# Altium schematic symbol library ASBB.SchLib: 3 symbols
Pins are listed as number, name and electrical type; pins without a type are passive.

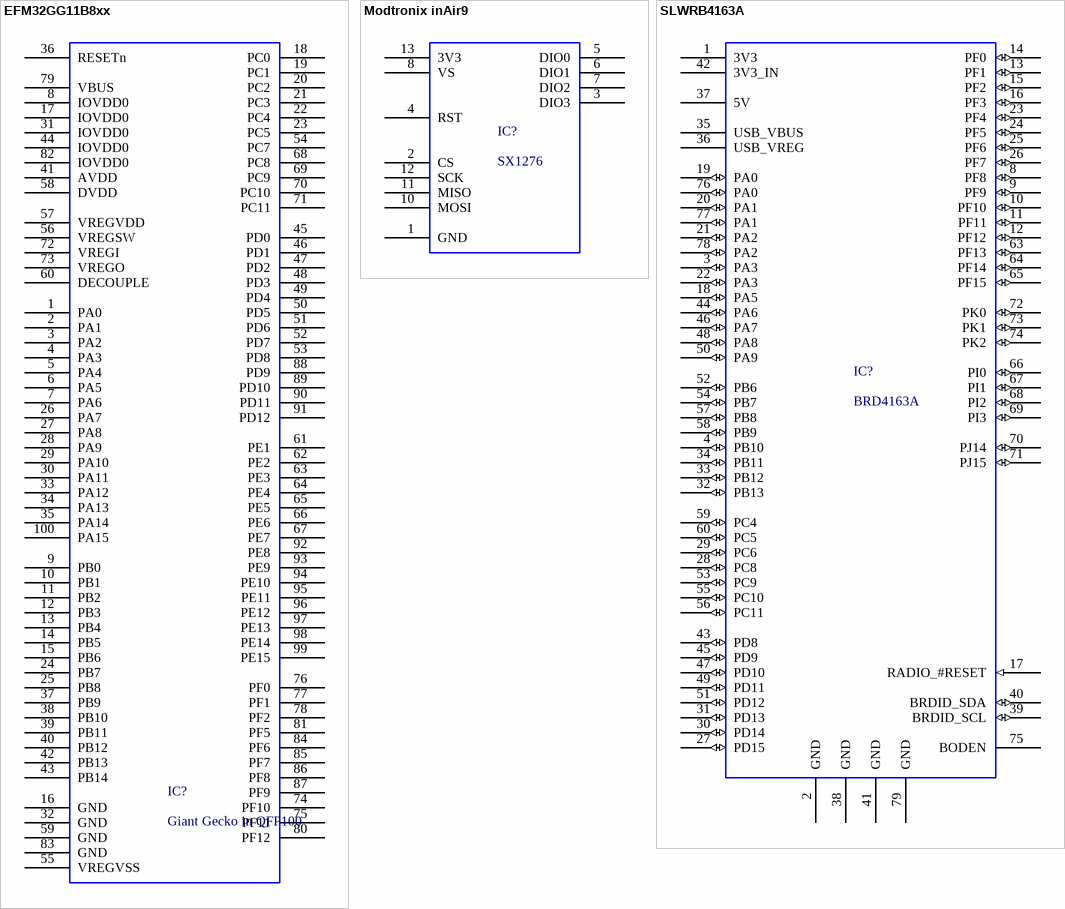
[diagram p0: symbols EFM32GG11B8xx to SLWRB4163A]

## EFM32GG11B8xx
designator IC?, comment Giant Gecko in QFP100
footprint TQFP100
pins: 1 PA0 (power), 2 PA1 (power), 3 PA2 (power), 4 PA3 (power), 5 PA4 (power), 6 PA5 (power), 7 PA6 (power), 8 IOVDD0 (power), 9 PB0 (power), 10 PB1 (power), 11 PB2 (power), 12 PB3 (power), 13 PB4 (power), 14 PB5 (power), 15 PB6 (power), 16 GND (power), 17 IOVDD0 (power), 18 PC0 (power), 19 PC1 (power), 20 PC2 (power), 21 PC3 (power), 22 PC4 (power), 23 PC5 (power), 24 PB7 (power), 25 PB8 (power), 26 PA7 (power), 27 PA8 (power), 28 PA9 (power), 29 PA10 (power), 30 PA11 (power), 31 IOVDD0 (power), 32 GND (power), 33 PA12 (power), 34 PA13 (power), 35 PA14 (power), 36 RESETn (power), 37 PB9 (power), 38 PB10 (power), 39 PB11 (power), 40 PB12 (power), 41 AVDD (power), 42 PB13 (power), 43 PB14 (power), 44 IOVDD0 (power), 45 PD0 (power), 46 PD1 (power), 47 PD2 (power), 48 PD3 (power), 49 PD4 (power), 50 PD5 (power), 51 PD6 (power), 52 PD7 (power), 53 PD8 (power), 54 PC7 (power), 55 VREGVSS (power), 56 VREGSW (power), 57 VREGVDD (power), 58 DVDD (power), 59 GND (power), 60 DECOUPLE (power), 61 PE1 (power), 62 PE2 (power), 63 PE3 (power), 64 PE4 (power), 65 PE5 (power), 66 PE6 (power), 67 PE7 (power), 68 PC8 (power), 69 PC9 (power), 70 PC10 (power), 71 PC11 (power), 72 VREGI (power), 73 VREGO (power), 74 PF10 (power), 75 PF11 (power), 76 PF0 (power), 77 PF1 (power), 78 PF2 (power), 79 VBUS (power), 80 PF12 (power), 81 PF5 (power), 82 IOVDD0 (power), 83 GND (power), 84 PF6 (power), 85 PF7 (power), 86 PF8 (power), 87 PF9 (power), 88 PD9 (power), 89 PD10 (power), 90 PD11 (power), 91 PD12 (power), 92 PE8 (power), 93 PE9 (power), 94 PE10 (power), 95 PE11 (power), 96 PE12 (power), 97 PE13 (power), 98 PE14 (power), 99 PE15 (power), 100 PA15 (power)

## Modtronix inAir9
designator IC?, comment SX1276
Modtronix LoRa Transceiver
footprint Modtronix inAir9
pins: 1 GND (power), 2 CS (power), 3 DIO3 (power), 4 RST (power), 5 DIO0 (power), 6 DIO1 (power), 7 DIO2 (power), 8 VS (power), 9 NC (power) hidden, 10 MOSI (power), 11 MISO (power), 12 SCK (power), 13 3V3 (power), 14 NC (power) hidden

## SLWRB4163A
designator IC?, comment BRD4163A
footprint 80-Pin SiLabs Module (Pin Header, pitch 1.27 mm, SMD, Vertical, dual row, 50p)
pins: 1 3V3 (power), 2 GND (power), 3 PA3 (io), 4 PB10 (io), 5 NC (power) hidden, 6 NC (power) hidden, 7 NC (power) hidden, 8 PF8 (io), 9 PF9 (io), 10 PF10 (io), 11 PF11 (io), 12 PF12 (io), 13 PF1 (io), 14 PF0 (io), 15 PF2 (io), 16 PF3 (io), 17 RADIO_#RESET (in), 18 PA5 (io), 19 PA0 (io), 20 PA1 (io), 21 PA2 (io), 22 PA3 (io), 23 PF4 (io), 24 PF5 (io), 25 PF6 (io), 26 PF7 (io), 27 PD15 (io), 28 PC8 (io), 29 PC6 (io), 30 PD14 (io), 31 PD13 (io), 32 PB13 (io), 33 PB12 (io), 34 PB11 (io), 35 USB_VBUS (power), 36 USB_VREG (power), 37 5V (power), 38 GND (power), 39 BRDID_SCL (io), 40 BRDID_SDA (io), 41 GND (power), 42 3V3_IN (power), 43 PD8 (io), 44 PA6 (io), 45 PD9 (io), 46 PA7 (io), 47 PD10 (io), 48 PA8 (io), 49 PD11 (io), 50 PA9 (io), 51 PD12 (io), 52 PB6 (io), 53 PC9 (io), 54 PB7 (io), 55 PC10 (io), 56 PC11 (io), 57 PB8 (io), 58 PB9 (io), 59 PC4 (io), 60 PC5 (io), 61 NC (power) hidden, 62 NC (power) hidden, 63 PF13 (io), 64 PF14 (io), 65 PF15 (io), 66 PI0 (io), 67 PI1 (io), 68 PI2 (io), 69 PI3 (io), 70 PJ14 (io), 71 PJ15 (io), 72 PK0 (io), 73 PK1 (io), 74 PK2 (io), 75 BODEN (power), 76 PA0 (io), 77 PA1 (io), 78 PA2 (io), 79 GND (power), 80 NC (power) hidden